# Altium schematic symbol library logic_flipflop.SchLib: 41 symbols
Pins are listed as number, name and electrical type; pins without a type are passive.

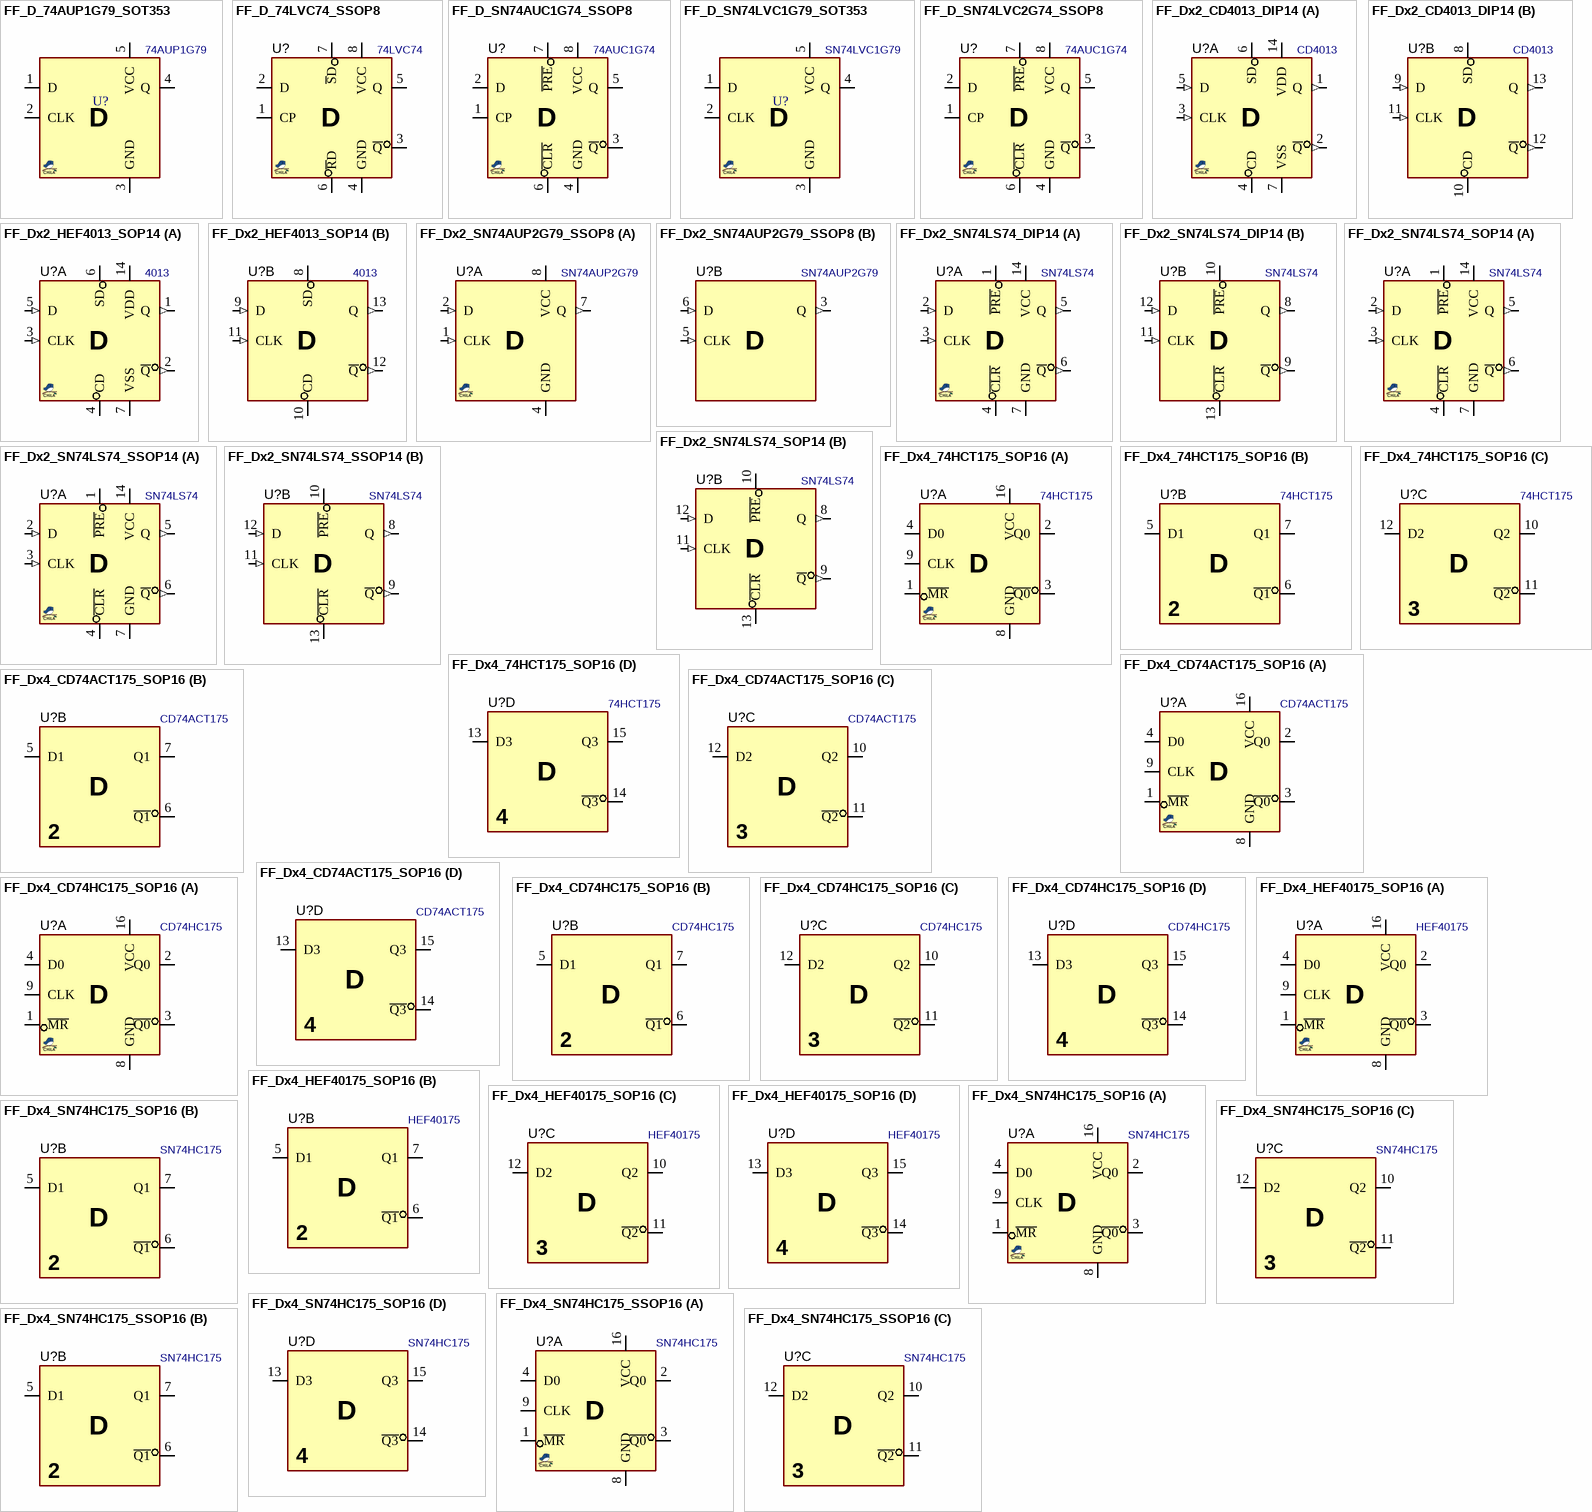
[diagram p0: symbols FF_D_74AUP1G79_SOT353 to FF_Dx4_SN74HC175_SSOP16]

## FF_D_74AUP1G79_SOT353
designator U?, comment 74AUP1G79
Flip-Flop, D, Dual, Positive-Edge-Triggered; MANF: NXP; MANF_P#: 74AUP1G79GV,125; PARAM2: 0.8~3.6V; PARAM: 20mA, 4.4ns@3.3V, -40~125°C; PRICE: 0.4$; VALUE: 74AUP1G79
footprint SOT353_5 (SC-88A, SC70-5, SOT-353, DCK (TI), 0.65mm pitch 2X1.3mm body)
pins: 1 D, 2 CLK, 3 GND (power), 4 Q, 5 VCC (power)

## FF_D_74LVC74_SSOP8
designator U?, comment 74LVC74
Flip-Flop, D-type, TSSOP-8 SMD; MANF: NXP; MANF_P#: 74LVC2G74DP,125; PARAM2: 1.65~5.5VCC,; VALUE: 74LVC74
footprint SOG65_8_3 (TSSOP8, MICRO8,  DGK VSSOP-8, MSOP8,   RM-8, MS8, MSOP-8, TSSO3X5-G8/D3.1, 8 uMAX, usop8/8uSOP, MO-187AA, MO-153AA, SSOP DCT SM8 (TI), pitch: 0.65mm, 3.0mmX3.0mm)
pins: 1 CP, 2 D, 3 ~{Q}, 4 GND, 5 Q, 6 ~{R}D, 7 ~{S}D, 8 VCC

## FF_D_SN74AUC1G74_SSOP8
designator U?, comment 74AUC1G74
Flip-Flop, D-type, TSSOP-8 SMD; MANF: Texas Instruments; MANF_P#: SN74AUC1G74DCT; PARAM2: 0.8~2.7VCC, 1.8VIO; PARAM: 9mA, 2.4ns; PRICE: 0.6$; VALUE: 74AUC1G74
footprint SOG65_8_3 (TSSOP8, MICRO8,  DGK VSSOP-8, MSOP8,   RM-8, MS8, MSOP-8, TSSO3X5-G8/D3.1, 8 uMAX, usop8/8uSOP, MO-187AA, MO-153AA, SSOP DCT SM8 (TI), pitch: 0.65mm, 3.0mmX3.0mm)
pins: 1 CP, 2 D, 3 ~{Q}, 4 GND, 5 Q, 6 ~{CLR}, 7 ~{PRE}, 8 VCC

## FF_D_SN74LVC1G79_SOT353
designator U?, comment SN74LVC1G79
Flip-Flop, D, Dual, Positive-Edge-Triggered; MANF: Texas Instruments; MANF_P#: SN74LVC1G79QDCKRQ1; PARAM2: 1.65~5.5V; PARAM: 24mA, 6ns@3.3V, -40~125°C; PRICE: 0.4$; VALUE: SN74LVC1G79
footprint SOT353_5 (SC-88A, SC70-5, SOT-353, DCK (TI), 0.65mm pitch 2X1.3mm body)
pins: 1 D, 2 CLK, 3 GND (power), 4 Q, 5 VCC (power)

## FF_D_SN74LVC2G74_SSOP8
designator U?, comment 74AUC1G74
Flip-Flop, D-type, TSSOP-8 SMD; MANF: Texas Instruments; MANF_P#: SN74LVC2G74DCT; PARAM2: 1.65~5.5VCC,; PARAM: 32mA, 6.2ns; PRICE: 0.6$; VALUE: 74AUC1G74
footprint SOG65_8_3 (TSSOP8, MICRO8,  DGK VSSOP-8, MSOP8,   RM-8, MS8, MSOP-8, TSSO3X5-G8/D3.1, 8 uMAX, usop8/8uSOP, MO-187AA, MO-153AA, SSOP DCT SM8 (TI), pitch: 0.65mm, 3.0mmX3.0mm)
pins: 1 CP, 2 D, 3 ~{Q}, 4 GND, 5 Q, 6 ~{CLR}, 7 ~{PRE}, 8 VCC

## FF_Dx2_CD4013_DIP14
designator U?, comment CD4013
Flip-Flop, D-type, Dual; MANF: Texas Instruments; MANF_P#: CD4013BM; PARAM2: 3~15VCC, 3.3/5/9/12V; PARAM: 4.2mA, 30ns@15V; PRICE: 0.6$; VALUE: CD4013
footprint DIP_14 (DIP, pitch 2.54mm, 300mil Width)
part A pins: 1 Q (out), 2 ~{Q} (out), 3 CLK (in), 4 CD, 5 D (in), 6 SD, 7 VSS (power), 14 VDD (power)
part B pins: 8 SD, 9 D (in), 10 CD, 11 CLK (in), 12 ~{Q} (out), 13 Q (out)

## FF_Dx2_HEF4013_SOP14
designator U?, comment 4013
Flip-Flop, D-type, Dual; MANF: Texas Instruments; MANF_P#: HEF4013BT,653; PARAM2: 3~15VCC, 3.3/5/9/12V; PARAM: 4.2mA, 30ns@15V; PRICE: 0.6$; VALUE: 4013
footprint SO_14 (SOP, SOIC, 3.9mm width, 1.27mm pitch,)
part A pins: 1 Q (out), 2 ~{Q} (out), 3 CLK (in), 4 CD, 5 D (in), 6 SD, 7 VSS (power), 14 VDD (power)
part B pins: 8 SD, 9 D (in), 10 CD, 11 CLK (in), 12 ~{Q} (out), 13 Q (out)

## FF_Dx2_SN74AUP2G79_SSOP8
designator U?, comment SN74AUP2G79
Flip-Flop, D-type, Dual; MANF: Texas Instruments; MANF_P#: SN74AUP2G79DCUR; PARAM2: 0.8~3.6V; PARAM: 4mA, 6.3ns@3.3V, -40°C~85°C; PRICE: 0.55$; VALUE: SN74AUP2G79
footprint SOG50_8 (VSSOP DCU US8  (TI), 8-Leads, 2.00x2.30mm, Pitch 0.50mm)
part A pins: 1 CLK (in), 2 D (in), 4 GND (power), 7 Q (out), 8 VCC (power)
part B pins: 3 Q (out), 5 CLK (in), 6 D (in)

## FF_Dx2_SN74LS74_DIP14
designator U?, comment SN74LS74
Flip-Flop, D-type, Dual; MANF: Texas Instruments; MANF_P#: SN74LS74AN; PARAM2: 5.5VCC,; PARAM: 24mA, 10.5ns,; PRICE: 0.6$; VALUE: SN74LS74
footprint DIP_14 (DIP, pitch 2.54mm, 300mil Width)
part A pins: 1 ~{PRE}, 2 D (in), 3 CLK (in), 4 ~{CLR}, 5 Q (out), 6 ~{Q} (out), 7 GND (power), 14 VCC (power)
part B pins: 8 Q (out), 9 ~{Q} (out), 10 ~{PRE}, 11 CLK (in), 12 D (in), 13 ~{CLR}

## FF_Dx2_SN74LS74_SOP14
designator U?, comment SN74LS74
Flip-Flop, D-type, Dual; MANF: Texas Instruments; MANF_P#: SN74LS74ADR; PARAM2: 5.5VCC,; PARAM: 24mA, 10.5ns,; PRICE: 0.6$; VALUE: SN74LS74
footprint SO_14 (SOP, SOIC, 3.9mm width, 1.27mm pitch,)
part A pins: 1 ~{PRE}, 2 D (in), 3 CLK (in), 4 ~{CLR}, 5 Q (out), 6 ~{Q} (out), 7 GND (power), 14 VCC (power)
part B pins: 8 Q (out), 9 ~{Q} (out), 10 ~{PRE}, 11 CLK (in), 12 D (in), 13 ~{CLR}

## FF_Dx2_SN74LS74_SSOP14
designator U?, comment SN74LS74
Flip-Flop, D-type, Dual; MANF: Texas Instruments; MANF_P#: SN74AHCT74PWR; PARAM2: 5.5VCC,; PARAM: 24mA, 10.5ns, -40~125C; PRICE: 0.6$; VALUE: SN74LS74
footprint SOG65_14 (PW TSSOP (TI), MO-153-AB (JEDEC), 14Lead, pitch: 0.65mm, 5x4.4x1.2mm)
part A pins: 1 ~{PRE}, 2 D (in), 3 CLK (in), 4 ~{CLR}, 5 Q (out), 6 ~{Q} (out), 7 GND (power), 14 VCC (power)
part B pins: 8 Q (out), 9 ~{Q} (out), 10 ~{PRE}, 11 CLK (in), 12 D (in), 13 ~{CLR}

## FF_Dx4_74HCT175_SOP16
designator U?, comment 74HCT175
Flip-Flop, D-type, Quad; MANF: NXP; MANF_P#: 74HCT175D; PARAM2: 4.5~5.5VCC; PARAM: 4mA, 16ns, -40~125C; PRICE: 0.6$; VALUE: 74HCT175
footprint SO_16 (SOP, SOIC, 3.9mm width, 1.27mm pitch,)
part A pins: 1 ~{MR}, 2 Q0, 3 ~{Q0}, 4 D0, 8 GND, 9 CLK, 16 VCC
part B pins: 5 D1, 6 ~{Q1}, 7 Q1
part C pins: 10 Q2, 11 ~{Q2}, 12 D2
part D pins: 13 D3, 14 ~{Q3}, 15 Q3
part A text: D
part B text: D
part C text: D
part D text: D

## FF_Dx4_CD74ACT175_SOP16
designator U?, comment CD74ACT175
Flip-Flop, D-type, Quad; MANF: Texas Instruments; MANF_P#: CD74ACT175M; PARAM2: 5.5VCC,; PARAM: 24mA,11.5ns, -55~125C; PRICE: 1.2$; VALUE: CD74ACT175
footprint SO_16 (SOP, SOIC, 3.9mm width, 1.27mm pitch,)
part A pins: 1 ~{MR}, 2 Q0, 3 ~{Q0}, 4 D0, 8 GND, 9 CLK, 16 VCC
part B pins: 5 D1, 6 ~{Q1}, 7 Q1
part C pins: 10 Q2, 11 ~{Q2}, 12 D2
part D pins: 13 D3, 14 ~{Q3}, 15 Q3
part A text: D
part B text: D
part C text: D
part D text: D

## FF_Dx4_CD74HC175_SOP16
designator U?, comment CD74HC175
Flip-Flop, D-type, Quad; MANF: Texas Instruments; MANF_P#: CD74HC175M; PARAM2: 2~6V; PARAM: 5mA, -55~125C; PRICE: 0.7$; VALUE: CD74HC175
footprint SO_16 (SOP, SOIC, 3.9mm width, 1.27mm pitch,)
part A pins: 1 ~{MR}, 2 Q0, 3 ~{Q0}, 4 D0, 8 GND, 9 CLK, 16 VCC
part B pins: 5 D1, 6 ~{Q1}, 7 Q1
part C pins: 10 Q2, 11 ~{Q2}, 12 D2
part D pins: 13 D3, 14 ~{Q3}, 15 Q3
part A text: D
part B text: D
part C text: D
part D text: D

## FF_Dx4_HEF40175_SOP16
designator U?, comment HEF40175
Flip-Flop, D-type, Quad; MANF: Nexperia; MANF_P#: HEF40175BT; PARAM2: 3~15Vcc; PARAM: 3.6mA, 25ns@15V, -40~85C; PRICE: 0.6$; VALUE: HEF40175
footprint SO_16 (SOP, SOIC, 3.9mm width, 1.27mm pitch,)
part A pins: 1 ~{MR}, 2 Q0, 3 ~{Q0}, 4 D0, 8 GND, 9 CLK, 16 VCC
part B pins: 5 D1, 6 ~{Q1}, 7 Q1
part C pins: 10 Q2, 11 ~{Q2}, 12 D2
part D pins: 13 D3, 14 ~{Q3}, 15 Q3
part A text: D
part B text: D
part C text: D
part D text: D

## FF_Dx4_SN74HC175_SOP16
designator U?, comment SN74HC175
Flip-Flop, D-type, Quad; MANF: Texas Instruments; MANF_P#: SN74HC175D; PARAM2: 2~6V; PARAM: 5mA, 150ns, -55~85C; PRICE: 0.5$; VALUE: SN74HC175
footprint SO_16 (SOP, SOIC, 3.9mm width, 1.27mm pitch,)
part A pins: 1 ~{MR}, 2 Q0, 3 ~{Q0}, 4 D0, 8 GND, 9 CLK, 16 VCC
part B pins: 5 D1, 6 ~{Q1}, 7 Q1
part C pins: 10 Q2, 11 ~{Q2}, 12 D2
part D pins: 13 D3, 14 ~{Q3}, 15 Q3
part A text: D
part B text: D
part C text: D
part D text: D

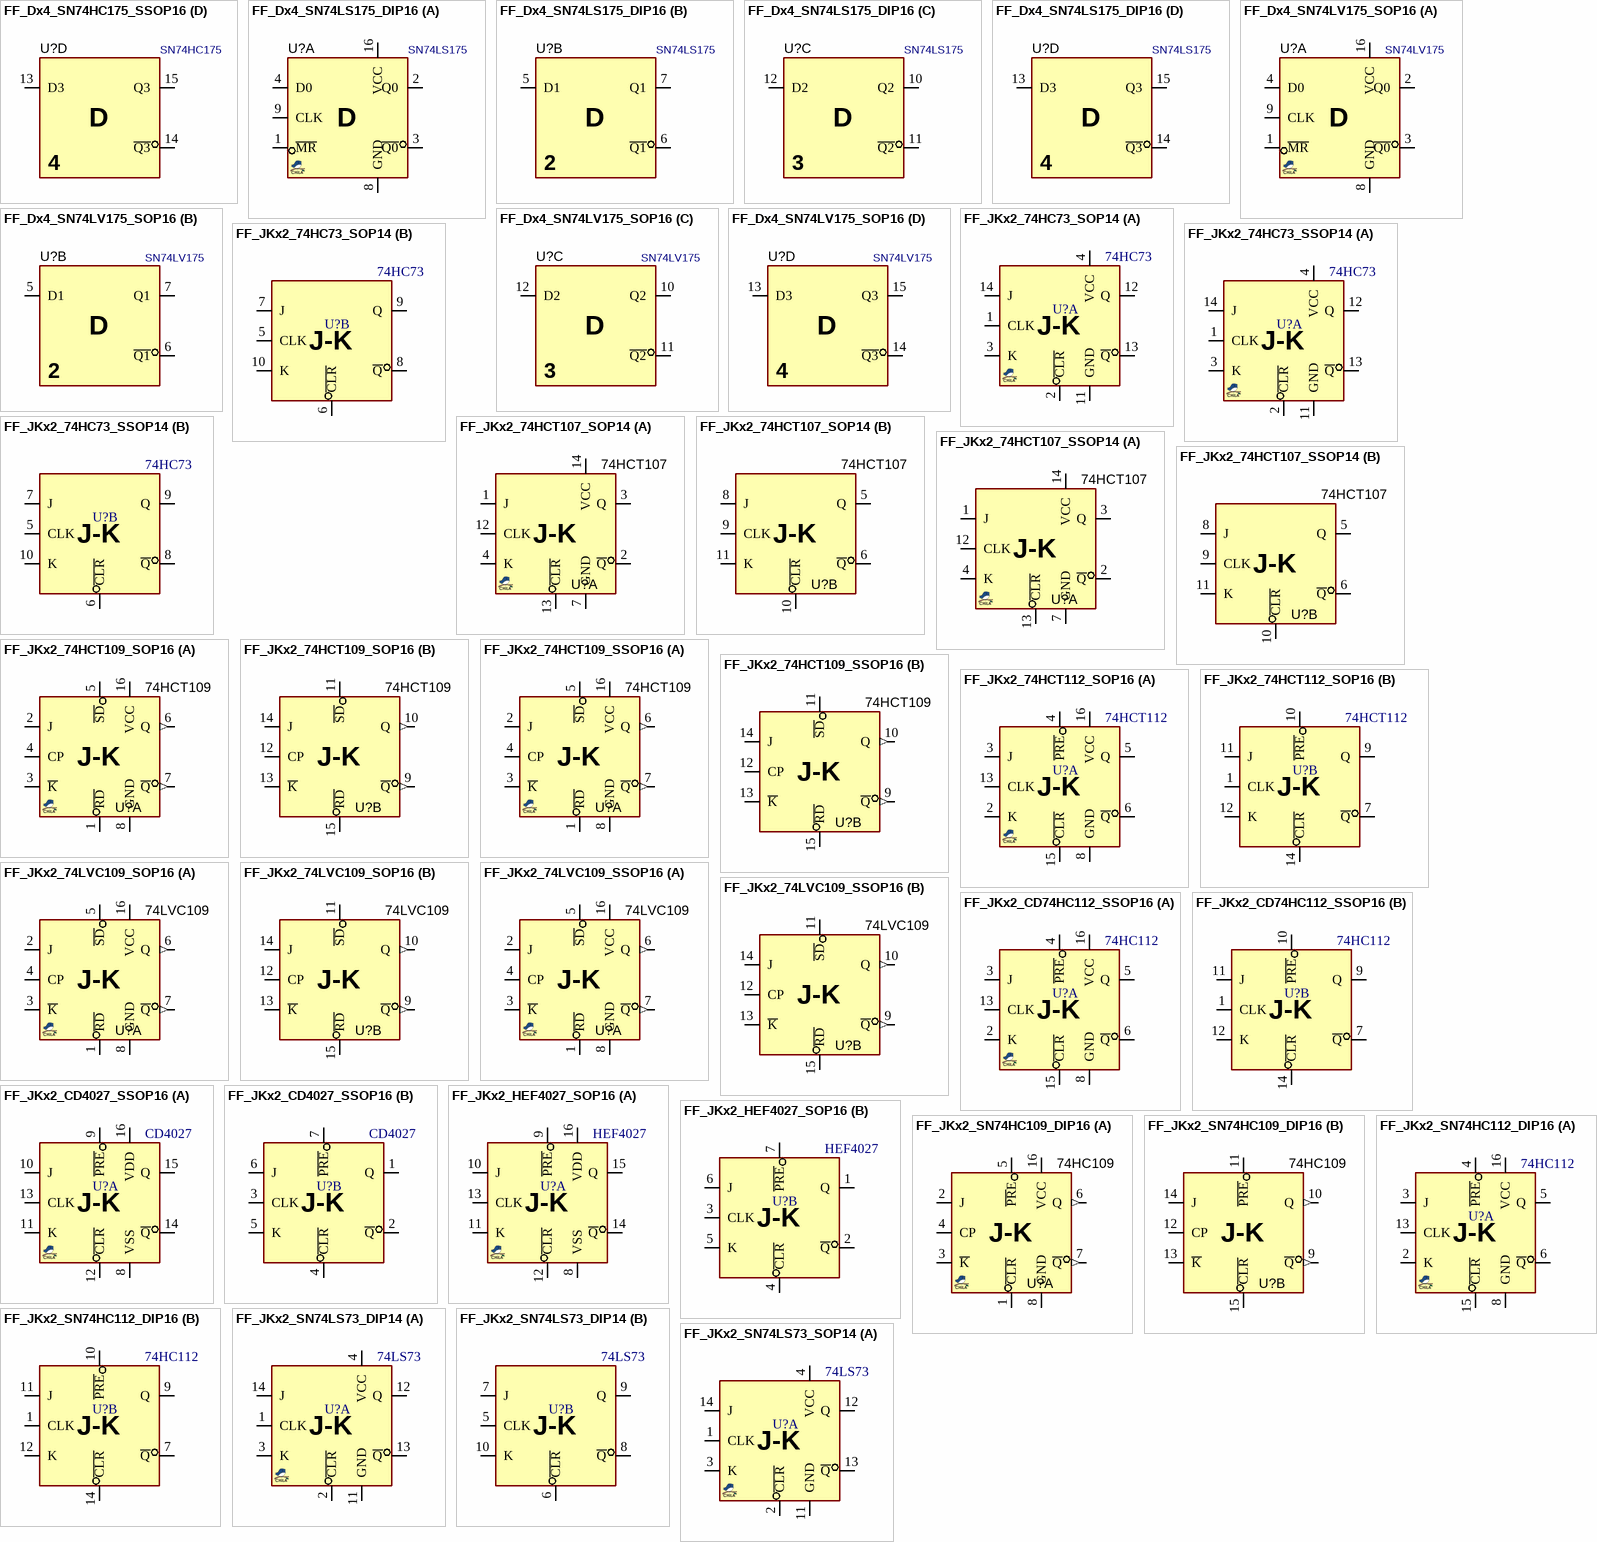
[diagram p1: symbols FF_Dx4_SN74HC175_SSOP16 to FF_JKx2_SN74LS73_SOP14]

## FF_Dx4_SN74HC175_SSOP16
designator U?, comment SN74HC175
Flip-Flop, D-type, Quad; MANF: TI; MANF_P#: SN74HC175PWR; PARAM2: 2~6VCC; PARAM: 5mA, 16ns, -40~85C; PRICE: 0.6$; VALUE: SN74HC175
footprint SOG65_16 (PW TSSOP (TI), MO-153-AB (JEDEC), 16Lead, pitch: 0.65mm, 5x4.4x1.2mm)
part A pins: 1 ~{MR}, 2 Q0, 3 ~{Q0}, 4 D0, 8 GND, 9 CLK, 16 VCC
part B pins: 5 D1, 6 ~{Q1}, 7 Q1
part C pins: 10 Q2, 11 ~{Q2}, 12 D2
part D pins: 13 D3, 14 ~{Q3}, 15 Q3
part A text: D
part B text: D
part C text: D
part D text: D

## FF_Dx4_SN74LS175_DIP16
designator U?, comment SN74LS175
Flip-Flop, D-type, Quad; MANF: Texas Instruments; MANF_P#: SN74LS175N; PARAM2: 5.5VCC,; PARAM: 8mA,25ns, 0~70C; PRICE: 0.9$; VALUE: SN74LS175
footprint DIP_16 (DIP, pitch 2.54mm, 300mil Width)
part A pins: 1 ~{MR}, 2 Q0, 3 ~{Q0}, 4 D0, 8 GND, 9 CLK, 16 VCC
part B pins: 5 D1, 6 ~{Q1}, 7 Q1
part C pins: 10 Q2, 11 ~{Q2}, 12 D2
part D pins: 13 D3, 14 ~{Q3}, 15 Q3
part A text: D
part B text: D
part C text: D
part D text: D

## FF_Dx4_SN74LV175_SOP16
designator U?, comment SN74LV175
Flip-Flop, D-type, Quad; MANF: Texas Instruments; MANF_P#: SN74LV175ADR; PARAM2: 5.5VCC,; PARAM: 12mA,23ns, -40~85C; PRICE: 0.9$; VALUE: SN74LV175
footprint SO_16 (SOP, SOIC, 3.9mm width, 1.27mm pitch,)
part A pins: 1 ~{MR}, 2 Q0, 3 ~{Q0}, 4 D0, 8 GND, 9 CLK, 16 VCC
part B pins: 5 D1, 6 ~{Q1}, 7 Q1
part C pins: 10 Q2, 11 ~{Q2}, 12 D2
part D pins: 13 D3, 14 ~{Q3}, 15 Q3
part A text: D
part B text: D
part C text: D
part D text: D

## FF_JKx2_74HC73_SOP14
designator U?, comment 74HC73
Flip-Flop, J-K, Dual,; MANF: Texas Instruments; MANF_P#: 74HC73D; PARAM2: 2~6V; PARAM: 20mA, 40ns@5V, -40~125°C; VALUE: 74HC73
footprint SO_14 (SOP, SOIC, 3.9mm width, 1.27mm pitch,)
part A pins: 1 CLK, 2 ~{CLR}, 3 K, 4 VCC (power), 11 GND (power), 12 Q, 13 ~{Q}, 14 J
part B pins: 5 CLK, 6 ~{CLR}, 7 J, 8 ~{Q}, 9 Q, 10 K
part A text: J-K
part B text: J-K

## FF_JKx2_74HC73_SSOP14
designator U?, comment 74HC73
Flip-Flop, J-K, Dual,; MANF: Texas Instruments; MANF_P#: 74HC73PW; PARAM2: 2~6V; PARAM: 20mA, 40ns@5V, -40~125°C; VALUE: 74HC73
footprint SOG65_14 (PW TSSOP (TI), MO-153-AB (JEDEC), 14Lead, pitch: 0.65mm, 5x4.4x1.2mm)
part A pins: 1 CLK, 2 ~{CLR}, 3 K, 4 VCC (power), 11 GND (power), 12 Q, 13 ~{Q}, 14 J
part B pins: 5 CLK, 6 ~{CLR}, 7 J, 8 ~{Q}, 9 Q, 10 K
part A text: J-K
part B text: J-K

## FF_JKx2_74HCT107_SOP14
designator U?, comment 74HCT107
Flip-Flop, JK-type, Negative Edge-Triggered; MANF: NXP; MANF_P#: 74HCT107D; PARAM2: 4.5~5.5V; PARAM: 20mA, 16ns@5V, -40~125°C; Value: 74HCT107
footprint SO_14 (SOP, SOIC, 3.9mm width, 1.27mm pitch,)
part A pins: 1 J, 2 ~{Q}, 3 Q, 4 K, 7 GND (power), 12 CLK, 13 ~{CLR}, 14 VCC (power)
part B pins: 5 Q, 6 ~{Q}, 8 J, 9 CLK, 10 ~{CLR}, 11 K
part A text: J-K
part B text: J-K

## FF_JKx2_74HCT107_SSOP14
designator U?, comment 74HCT107
Flip-Flop, JK-type, Negative Edge-Triggered; MANF: NXP; MANF_P#: 74HC107PW; PARAM2: 4.5~5.5V; PARAM: 20mA, 16ns@5V, -40~125°C; Value: 74HCT107
footprint SOG65_14 (PW TSSOP (TI), MO-153-AB (JEDEC), 14Lead, pitch: 0.65mm, 5x4.4x1.2mm)
part A pins: 1 J, 2 ~{Q}, 3 Q, 4 K, 7 GND (power), 12 CLK, 13 ~{CLR}, 14 VCC (power)
part B pins: 5 Q, 6 ~{Q}, 8 J, 9 CLK, 10 ~{CLR}, 11 K
part A text: J-K
part B text: J-K

## FF_JKx2_74HCT109_SOP16
designator U?, comment 74HCT109
Flip-Flop, JK-type, Positive Edge-Triggered; MANF: NXP; MANF_P#: 74HCT109D,653; PARAM2: 4.5~5.5V; PARAM: 4mA, 35ns@4.5V, -40~125°C; Value: 74HCT109
footprint SO_16 (SOP, SOIC, 3.9mm width, 1.27mm pitch,)
part A pins: 1 ~{RD}, 2 J, 3 ~{K}, 4 CP, 5 ~{SD}, 6 Q (out), 7 ~{Q} (out), 8 GND (power), 16 VCC (power)
part B pins: 9 ~{Q} (out), 10 Q (out), 11 ~{SD}, 12 CP, 13 ~{K}, 14 J, 15 ~{RD}
part A text: J-K
part B text: J-K

## FF_JKx2_74HCT109_SSOP16
designator U?, comment 74HCT109
Flip-Flop, JK-type, Positive Edge-Triggered; MANF: NXP; MANF_P#: 74HCT109PW; PARAM2: 4.5~5.5V; PARAM: 4mA, 35ns@4.5V, -40~125°C; Value: 74HCT109
footprint SOG65_16 (PW TSSOP (TI), MO-153-AB (JEDEC), 16Lead, pitch: 0.65mm, 5x4.4x1.2mm)
part A pins: 1 ~{RD}, 2 J, 3 ~{K}, 4 CP, 5 ~{SD}, 6 Q (out), 7 ~{Q} (out), 8 GND (power), 16 VCC (power)
part B pins: 9 ~{Q} (out), 10 Q (out), 11 ~{SD}, 12 CP, 13 ~{K}, 14 J, 15 ~{RD}
part A text: J-K
part B text: J-K

## FF_JKx2_74HCT112_SOP16
designator U?, comment 74HCT112
Flip-Flop, J-K, Dual, Set & Reset, TTL, Negative Edge-Triggered; MANF: NXP; MANF_P#: 74HCT112D; PARAM2: 4.5~5.5VCC; PARAM: 20mA, 17ns, -40~125°C; PRICE: 0.6$; VALUE: 74HCT112
footprint SO_16 (SOP, SOIC, 3.9mm width, 1.27mm pitch,)
part A pins: 2 K, 3 J, 4 ~{PRE}, 5 Q, 6 ~{Q}, 8 GND (power), 13 CLK, 15 ~{CLR}, 16 VCC (power)
part B pins: 1 CLK, 7 ~{Q}, 9 Q, 10 ~{PRE}, 11 J, 12 K, 14 ~{CLR}
part A text: J-K
part B text: J-K

## FF_JKx2_74LVC109_SOP16
designator U?, comment 74LVC109
Flip-Flop, JK-type, Positive Edge-Triggered; MANF: NXP; MANF_P#: 74LVC109D; PARAM2: 1.2~3.6V; PARAM: 50mA, 8ns@3.3V, -40~125°C; Value: 74LVC109
footprint SO_16 (SOP, SOIC, 3.9mm width, 1.27mm pitch,)
part A pins: 1 ~{RD}, 2 J, 3 ~{K}, 4 CP, 5 ~{SD}, 6 Q (out), 7 ~{Q} (out), 8 GND (power), 16 VCC (power)
part B pins: 9 ~{Q} (out), 10 Q (out), 11 ~{SD}, 12 CP, 13 ~{K}, 14 J, 15 ~{RD}
part A text: J-K
part B text: J-K

## FF_JKx2_74LVC109_SSOP16
designator U?, comment 74LVC109
Flip-Flop, JK-type, Positive Edge-Triggered; MANF: NXP; MANF_P#: 74LVC109PW; PARAM2: 1.2~3.6V; PARAM: 50mA, 8ns@3.3V, -40~125°C; Value: 74LVC109
footprint SOG65_16 (PW TSSOP (TI), MO-153-AB (JEDEC), 16Lead, pitch: 0.65mm, 5x4.4x1.2mm)
part A pins: 1 ~{RD}, 2 J, 3 ~{K}, 4 CP, 5 ~{SD}, 6 Q (out), 7 ~{Q} (out), 8 GND (power), 16 VCC (power)
part B pins: 9 ~{Q} (out), 10 Q (out), 11 ~{SD}, 12 CP, 13 ~{K}, 14 J, 15 ~{RD}
part A text: J-K
part B text: J-K

## FF_JKx2_CD74HC112_SSOP16
designator U?, comment 74HC112
Flip-Flop, J-K, Dual, Set & Reset, Negative Edge-Triggered; MANF: Texas Instruments, nxp; MANF_P#: CD74HC112PWR, 74HC112PW; PARAM2: 2~6VCC; PARAM: 5.2mA, 13ns@5V, -55~125°C; PRICE: 0.7$; VALUE: 74HC112
footprint SOG65_16 (PW TSSOP (TI), MO-153-AB (JEDEC), 16Lead, pitch: 0.65mm, 5x4.4x1.2mm)
part A pins: 2 K, 3 J, 4 ~{PRE}, 5 Q, 6 ~{Q}, 8 GND (power), 13 CLK, 15 ~{CLR}, 16 VCC (power)
part B pins: 1 CLK, 7 ~{Q}, 9 Q, 10 ~{PRE}, 11 J, 12 K, 14 ~{CLR}
part A text: J-K
part B text: J-K

## FF_JKx2_CD4027_SSOP16
designator U?, comment CD4027
Flip-Flop, J-K, Dual, Set & Reset; MANF: Texas Instruments; MANF_P#: CD4027BPWR; PARAM2: 3~15V; PARAM: 10mA, 200ns@5V, -50~125°C; VALUE: CD4027
footprint SOG65_16 (PW TSSOP (TI), MO-153-AB (JEDEC), 16Lead, pitch: 0.65mm, 5x4.4x1.2mm)
part A pins: 8 VSS (power), 9 ~{PRE}, 10 J, 11 K, 12 ~{CLR}, 13 CLK, 14 ~{Q}, 15 Q, 16 VDD (power)
part B pins: 1 Q, 2 ~{Q}, 3 CLK, 4 ~{CLR}, 5 K, 6 J, 7 ~{PRE}
part A text: J-K
part B text: J-K

## FF_JKx2_HEF4027_SOP16
designator U?, comment HEF4027
Flip-Flop, J-K, Dual, Set & Reset; MANF: NXP; MANF_P#: HEF4027BT; PARAM2: 3~15V; PARAM: 10mA, 200ns@5V, -40~85°C; VALUE: HEF4027
footprint SO_16 (SOP, SOIC, 3.9mm width, 1.27mm pitch,)
part A pins: 8 VSS (power), 9 ~{PRE}, 10 J, 11 K, 12 ~{CLR}, 13 CLK, 14 ~{Q}, 15 Q, 16 VDD (power)
part B pins: 1 Q, 2 ~{Q}, 3 CLK, 4 ~{CLR}, 5 K, 6 J, 7 ~{PRE}
part A text: J-K
part B text: J-K

## FF_JKx2_SN74HC109_DIP16
designator U?, comment 74HC109
Flip-Flop, JK-type, Positive Edge-Triggered; MANF: Texas Instruments; MANF_P#: SN74HC109N; PARAM2: 2~6V; PARAM: 4mA, 12ns@5V, -40~85°C; Value: 74HC109
footprint DIP_16 (DIP, pitch 2.54mm, 300mil Width)
part A pins: 1 ~{CLR}, 2 J, 3 ~{K}, 4 CP, 5 ~{PR}E, 6 Q (out), 7 ~{Q} (out), 8 GND (power), 16 VCC (power)
part B pins: 9 ~{Q} (out), 10 Q (out), 11 ~{PRE}, 12 CP, 13 ~{K}, 14 J, 15 ~{CLR}
part A text: J-K
part B text: J-K

## FF_JKx2_SN74HC112_DIP16
designator U?, comment 74HC112
Flip-Flop, J-K, Dual, Set & Reset, Negative Edge-Triggered; MANF: Texas Instruments; MANF_P#: SN74HC112N; PARAM2: 2~6V; PARAM: 20mA, 13ns@5V, -40~85°C; VALUE: 74HC112
footprint DIP_16 (DIP, pitch 2.54mm, 300mil Width)
part A pins: 2 K, 3 J, 4 ~{PRE}, 5 Q, 6 ~{Q}, 8 GND (power), 13 CLK, 15 ~{CLR}, 16 VCC (power)
part B pins: 1 CLK, 7 ~{Q}, 9 Q, 10 ~{PRE}, 11 J, 12 K, 14 ~{CLR}
part A text: J-K
part B text: J-K

## FF_JKx2_SN74LS73_DIP14
designator U?, comment 74LS73
Flip-Flop, J-K, Dual,; MANF: Texas Instruments; MANF_P#: SN74LS73AN; PARAM2: 4.75~5.25V; PARAM: 8mA, 20ns@5V, 0~70°C; VALUE: 74LS73
footprint DIP_14 (DIP, pitch 2.54mm, 300mil Width)
part A pins: 1 CLK, 2 ~{CLR}, 3 K, 4 VCC (power), 11 GND (power), 12 Q, 13 ~{Q}, 14 J
part B pins: 5 CLK, 6 ~{CLR}, 7 J, 8 ~{Q}, 9 Q, 10 K
part A text: J-K
part B text: J-K

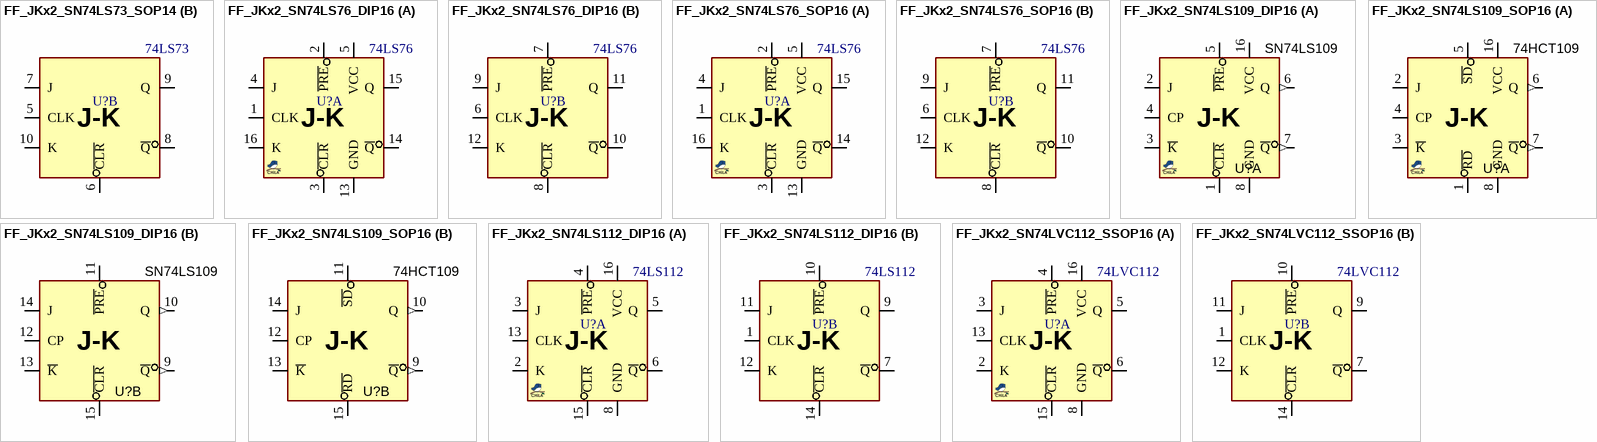
[diagram p2: symbols FF_JKx2_SN74LS73_SOP14 to FF_JKx2_SN74LVC112_SSOP16]

## FF_JKx2_SN74LS73_SOP14
designator U?, comment 74LS73
Flip-Flop, J-K, Dual,; MANF: Texas Instruments; MANF_P#: SN74LS73ADR; PARAM2: 4.75~5.25V; PARAM: 8mA, 20ns@5V, 0~70°C; VALUE: 74LS73
footprint SO_14 (SOP, SOIC, 3.9mm width, 1.27mm pitch,)
part A pins: 1 CLK, 2 ~{CLR}, 3 K, 4 VCC (power), 11 GND (power), 12 Q, 13 ~{Q}, 14 J
part B pins: 5 CLK, 6 ~{CLR}, 7 J, 8 ~{Q}, 9 Q, 10 K
part A text: J-K
part B text: J-K

## FF_JKx2_SN74LS76_DIP16
designator U?, comment 74LS76
Flip-Flop, J-K, Dual, Set & Reset; MANF: Texas Instruments; MANF_P#: SN74LS76AN; PARAM2: 4.75~5.25V; PARAM: 8mA, 20ns@5V, 0~70°C; VALUE: 74LS76
footprint DIP_16 (DIP, pitch 2.54mm, 300mil Width)
part A pins: 1 CLK, 2 ~{PRE}, 3 ~{CLR}, 4 J, 5 VCC (power), 13 GND (power), 14 ~{Q}, 15 Q, 16 K
part B pins: 6 CLK, 7 ~{PRE}, 8 ~{CLR}, 9 J, 10 ~{Q}, 11 Q, 12 K
part A text: J-K
part B text: J-K

## FF_JKx2_SN74LS76_SOP16
designator U?, comment 74LS76
Flip-Flop, J-K, Dual, Set & Reset; MANF: Texas Instruments; MANF_P#: SN74LS76AD; PARAM2: 4.75~5.25V; PARAM: 8mA, 20ns@5V, 0~70°C; VALUE: 74LS76
footprint SO_16 (SOP, SOIC, 3.9mm width, 1.27mm pitch,)
part A pins: 1 CLK, 2 ~{PRE}, 3 ~{CLR}, 4 J, 5 VCC (power), 13 GND (power), 14 ~{Q}, 15 Q, 16 K
part B pins: 6 CLK, 7 ~{PRE}, 8 ~{CLR}, 9 J, 10 ~{Q}, 11 Q, 12 K
part A text: J-K
part B text: J-K

## FF_JKx2_SN74LS109_DIP16
designator U?, comment SN74LS109
Flip-Flop, JK-type, Positive Edge-Triggered; MANF: Texas Instruments; MANF_P#: SN74LS109AN; PARAM2: 4.75~5.25V; PARAM: 4mA, 40ns@5V, 0~70°C; Value: SN74LS109
footprint DIP_16 (DIP, pitch 2.54mm, 300mil Width)
part A pins: 1 ~{CLR}, 2 J, 3 ~{K}, 4 CP, 5 ~{PR}E, 6 Q (out), 7 ~{Q} (out), 8 GND (power), 16 VCC (power)
part B pins: 9 ~{Q} (out), 10 Q (out), 11 ~{PRE}, 12 CP, 13 ~{K}, 14 J, 15 ~{CLR}
part A text: J-K
part B text: J-K

## FF_JKx2_SN74LS109_SOP16
designator U?, comment 74HCT109
Flip-Flop, JK-type, Positive Edge-Triggered; MANF: Texas Instruments; MANF_P#: SN74LS109ADR; PARAM2: 4.5~5.5V; PARAM: 4mA, 35ns@4.5V, -40~125°C; Value: 74HCT109
footprint SO_16 (SOP, SOIC, 3.9mm width, 1.27mm pitch,)
part A pins: 1 ~{RD}, 2 J, 3 ~{K}, 4 CP, 5 ~{SD}, 6 Q (out), 7 ~{Q} (out), 8 GND (power), 16 VCC (power)
part B pins: 9 ~{Q} (out), 10 Q (out), 11 ~{SD}, 12 CP, 13 ~{K}, 14 J, 15 ~{RD}
part A text: J-K
part B text: J-K

## FF_JKx2_SN74LS112_DIP16
designator U?, comment 74LS112
Flip-Flop, J-K, Dual, Set & Reset, Negative Edge-Triggered; MANF: Texas Instruments; MANF_P#: SN74LS112AN; PARAM2: 4.75~5.25V; PARAM: 4mA, 40ns@5V, 0~70°C; VALUE: 74LS112
footprint DIP_16 (DIP, pitch 2.54mm, 300mil Width)
part A pins: 2 K, 3 J, 4 ~{PRE}, 5 Q, 6 ~{Q}, 8 GND (power), 13 CLK, 15 ~{CLR}, 16 VCC (power)
part B pins: 1 CLK, 7 ~{Q}, 9 Q, 10 ~{PRE}, 11 J, 12 K, 14 ~{CLR}
part A text: J-K
part B text: J-K

## FF_JKx2_SN74LVC112_SSOP16
designator U?, comment 74LVC112
Flip-Flop, J-K, Dual, Set & Reset, Negative Edge-Triggered; MANF: Texas Instruments; MANF_P#: SN74LVC112APWR; PARAM2: 1.65~3.6VCC, (5V accepted); PARAM: 24mA, 4.8ns@3.3V, -40~85°C; PRICE: 0.7$; VALUE: 74LVC112
footprint SOG65_16 (PW TSSOP (TI), MO-153-AB (JEDEC), 16Lead, pitch: 0.65mm, 5x4.4x1.2mm)
part A pins: 2 K, 3 J, 4 ~{PRE}, 5 Q, 6 ~{Q}, 8 GND (power), 13 CLK, 15 ~{CLR}, 16 VCC (power)
part B pins: 1 CLK, 7 ~{Q}, 9 Q, 10 ~{PRE}, 11 J, 12 K, 14 ~{CLR}
part A text: J-K
part B text: J-K